# Altium footprint library LedHolder.PcbLib: 1 footprints
Each footprint in its own frame and in the unit in brackets; x right, y up, seen from the top. Pads: shape width x height; smd on the part's side, far side on the other; paste and mask are expansions set on the pad; w line width, h text height; cw(c..) or ccw(c..) is an arc to the next point about the centre after c.
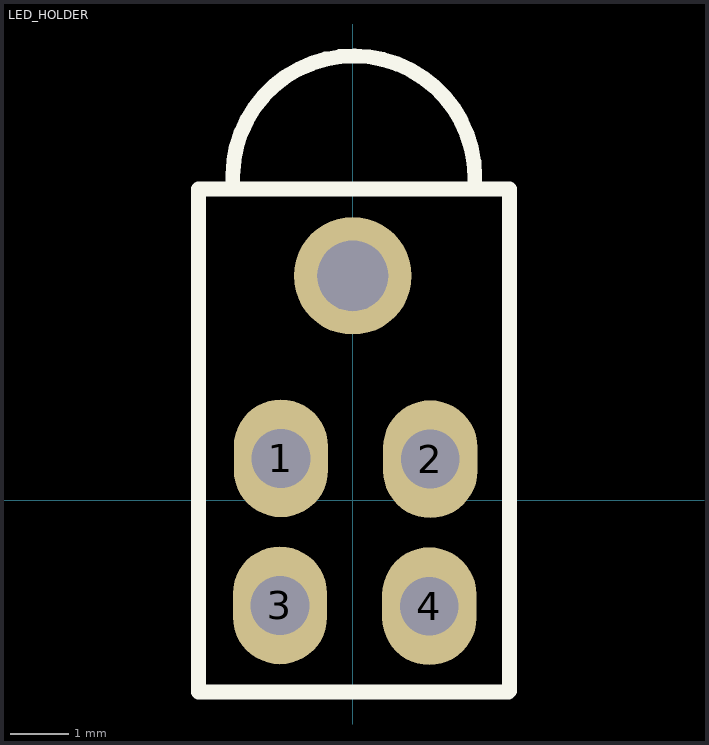
[diagram p0: the footprint, top view; thin cyan lines are the x and y axes]

## LED_HOLDER [mm]
pads (5):
  oval 1.6x2 hole 1: 1(-1.219,0.711) 2(1.317,0.697) 3(-1.236,-1.786) 4(1.3,-1.8)
  round 2 hole 1.2: ""(0,3.81)
Top Overlay:
  lines w0.254: -2.038,5.324 -2.038,5.517 cw(c0.017,5.492) 2.072,5.496 2.072,5.318 ; 2.65,-3.251 2.642,-3.26 -2.619,-3.26 -2.619,5.282 2.662,5.282 2.662,-3.239
3D body "DUAL LED HOUSING.SLDPRT": height 9.65, standoff -3.68, extent -2.12,-3.065 2.2,7.665